# Altium schematic symbol library SCH - MCU - ATTINY - MICROCHIP ATTINY13A-MU MLF20.SchLib: 1 symbol
Pins are listed as number, name and electrical type; pins without a type are passive.

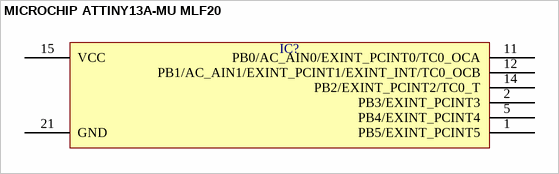
[diagram p0: symbol MICROCHIP ATTINY13A-MU MLF20]

## MICROCHIP ATTINY13A-MU MLF20
designator IC?  (value not drawn)
pins: 1 PB5/EXINT_PCINT5, 2 PB3/EXINT_PCINT3, 5 PB4/EXINT_PCINT4, 11 PB0/AC_AIN0/EXINT_PCINT0/TC0_OCA, 12 PB1/AC_AIN1/EXINT_PCINT1/EXINT_INT/TC0_OCB, 14 PB2/EXINT_PCINT2/TC0_T, 15 VCC, 21 GND